# EAGLE library part 691311700006 (library WR-TBL Pluggable Connector)
WR-TBL Serie 3117 - 5.00 mm Open Vertical PCB Header KIND PROPERTIES Pitch 5 mm MATERIAL PROPERTIES Insulator Material PA46; PA66 Insulator Flammability Rating UL94 V-0 Contact Material Brass Contact Plating Tin GENERAL INFORMATION Operating Temperature -40 up to +105 °C Compliance RoHS ELECTRICAL PROPERTIES IR cULus 20 A IR VDE 20 A Working Voltage 300 V (AC) Working Voltage [cULus] 300 V (AC) Working Voltage [VDE] 300 V (AC) Withstanding Voltage [cULus] 1600 V (AC) Withstanding Voltage [VDE] 2500 V (AC) Contact Resistance [cULus] 20 mΩ Contact Resistance [VDE] 20 mΩ CERTIFICATION cULus Approval E315414 VDE Approval 40023195 <https://www.we-online.com/catalog/media/o33259v209%20Family_WR-TBL_69131170000x.jpg> Details see: www.we-online.com/catalog/TBL_5_00_3117_OPEN_VERTICAL_PCB_HEADER_69131170000X <www.we-online.com/catalog/TBL_5_00_3117_OPEN_VERTICAL_PCB_HEADER_69131170000X/?utm_source=eagle_model&utm_medium=description_link&utm_campaign=eisos_eagle> Updated by Ella Wu 2022-07-25 2022(C) Wurth Elektronik
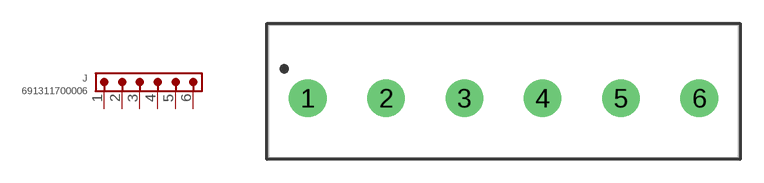
[diagram p166: symbol with the pads of 691311700006; footprint 691311700006]

Designator prefix J

## 691311700006 (DATASHEET-URL: https://www.we-online.com/redexpert/spec/691311700006?ae; IR-UL: 20A; IR-VDE: 20A; MOUNT: THT; PART-NUMBER: 691311700006; PINS: 6; PITCH: 5mm; TYPE: Vertical; VALUE: 691311700006; WORKING-VOLTAGE-UL: 300V (AC); WORKING-VOLTAGE-VDE: 300V (AC))  [691311700006]
1  1  pas
2  2  pas
3  3  pas
4  4  pas
5  5  pas
6  6  pas

## Footprint 691311700006 (pad centres in mm)
WR-TBL Serie 3117 - 5.00 mm Open Vertical PCB Header Max Height = 12mm , Pitch 5mm , 6pins
drill 1.6: 1 -12.5,0; 2 -7.5,0; 3 -2.5,0; 4 2.5,0; 5 7.5,0; 6 12.5,0